# Altium integrated library ASPI-0615FS-150M-T2.IntLib: 1 symbol
Pins are listed as number, name and electrical type; pins without a type are passive.

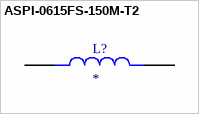
[diagram p0: symbol ASPI-0615FS-150M-T2]

## ASPI-0615FS-150M-T2
designator L?
Inductor Power Shielded Wirewound 15uH 20% 100KHz Ferrite 1.2A 0.12Ohm DCR 2424 T/R; MF: Abracon; MP: ASPI-0615FS-150M-T2; SnapEDA_Link: https://www.snapeda.com/parts/ASPI-0615FS-150M-T2/Abracon/view-part/?ref=snap; Package: Nonstandard Abracon; Value: *; Check_prices: https://www.snapeda.com/parts/ASPI-0615FS-150M-T2/Abracon/view-part/?ref=eda
footprint IND_ASPI-0615FS-150M-T2
pins: 1, 2